# Altium schematic symbol library LSM303A.SchLib: 1 symbol
Pins are listed as number, name and electrical type; pins without a type are passive.

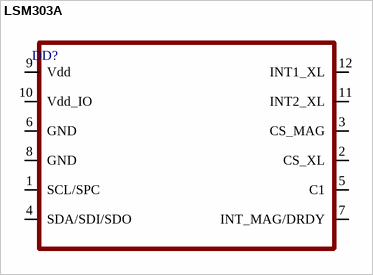
[diagram p0: symbol LSM303A]

## LSM303A
designator DD?
pins: 1 SCL/SPC, 2 CS_XL, 3 CS_MAG, 4 SDA/SDI/SDO, 5 C1, 6 GND, 7 INT_MAG/DRDY, 8 GND, 9 Vdd, 10 Vdd_IO, 11 INT2_XL, 12 INT1_XL